# Altium footprint library cY8c29466.PcbLib: 1 footprints
Each footprint in its own frame and in the unit in brackets; x right, y up, seen from the top. Pads: shape width x height; smd on the part's side, far side on the other; paste and mask are expansions set on the pad; w line width, h text height; cw(c..) or ccw(c..) is an arc to the next point about the centre after c.
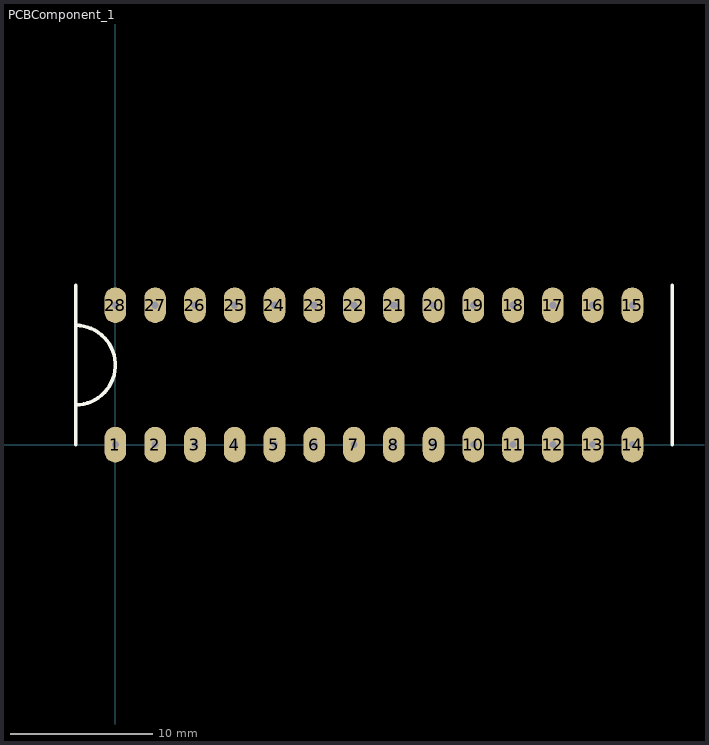
[diagram p0: the footprint, top view; thin cyan lines are the x and y axes]

## PCBComponent_1 [mm]
pads (28):
  oval 1.524x2.5 hole 0.5: 1(0,0) 2(2.79,0) 3(5.58,0) 4(8.37,0) 5(11.16,0) 6(13.95,0) 7(16.74,0) 8(19.53,0) 9(22.32,0) 10(25.11,0) 11(27.9,0) 12(30.69,0) 13(33.48,0) 14(36.27,0) 15(36.27,9.78) 16(33.48,9.78) 17(30.69,9.78) 18(27.9,9.78) 19(25.11,9.78) 20(22.32,9.78) 21(19.53,9.78) 22(16.74,9.78) 23(13.95,9.78) 24(11.16,9.78) 25(8.37,9.78) 26(5.58,9.78) 27(2.79,9.78) 28(0,9.78)
Top Overlay:
  lines w0.254: -2.79,0 -2.79,11.16 ; -2.79,2.79 ccw(c-2.79,5.58) -2.79,8.37 ; 39.06,0 39.06,11.16